# Altium schematic symbol library socket_card.SchLib: 29 symbols
Pins are listed as number, name and electrical type; pins without a type are passive.

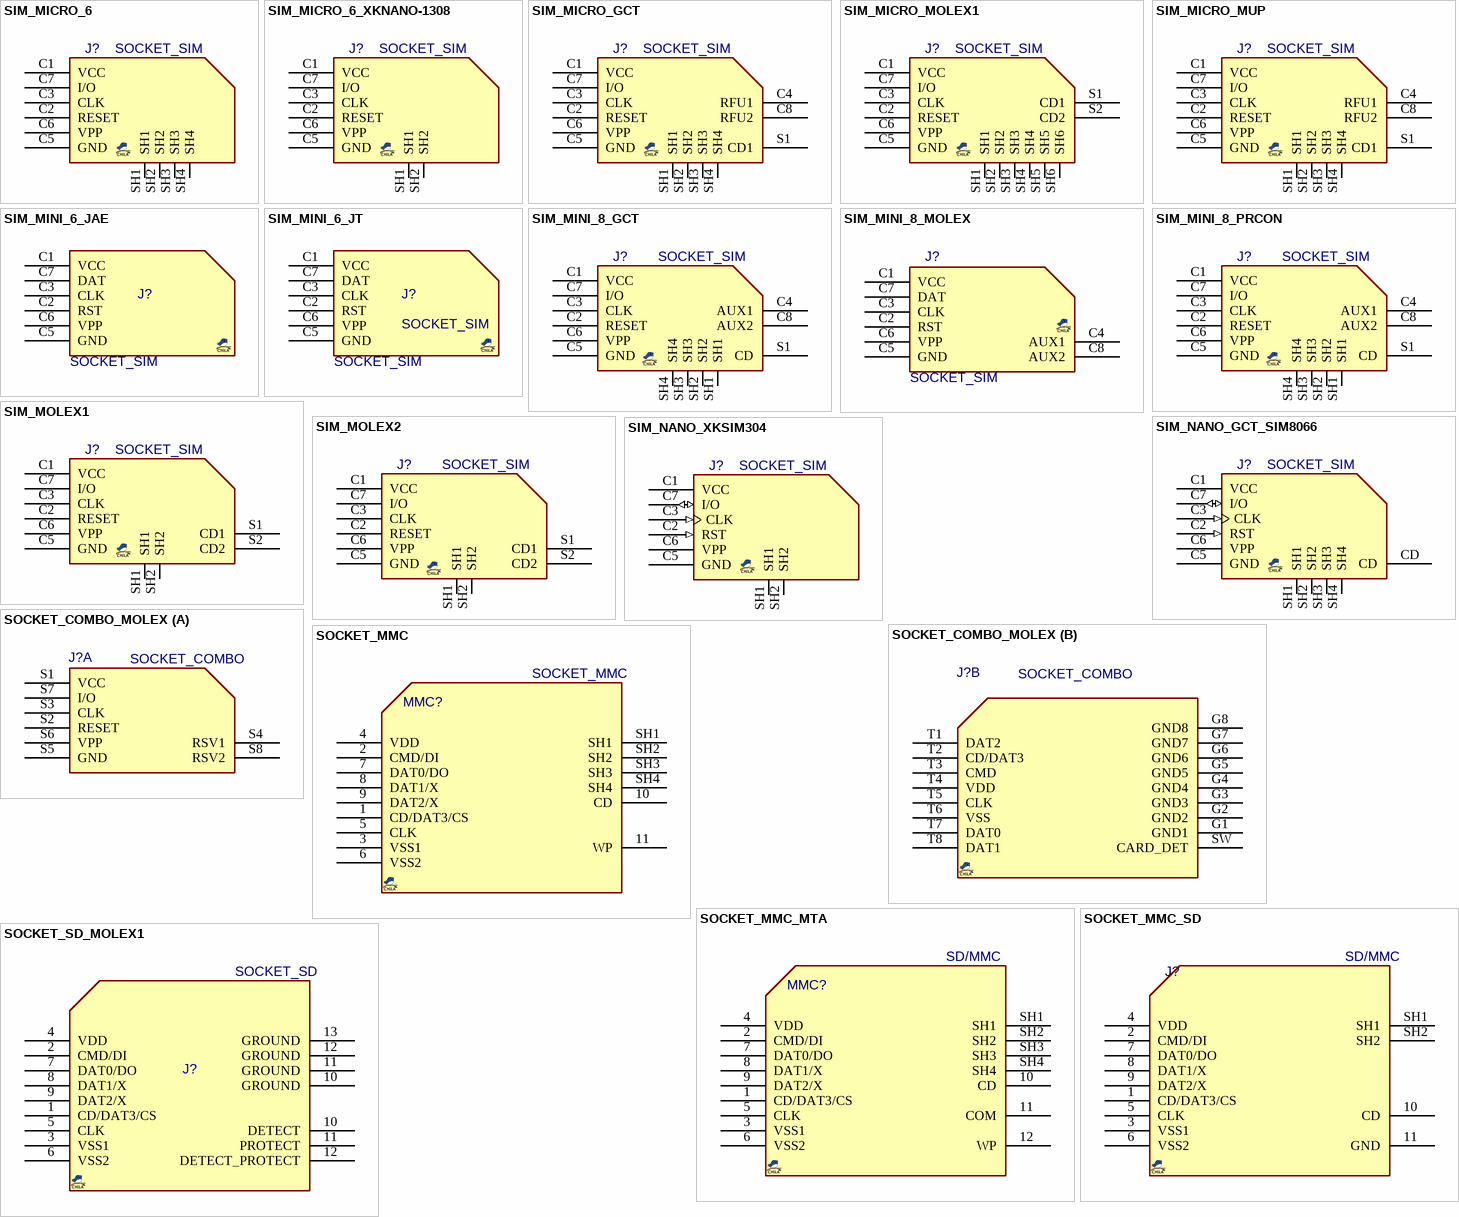
[diagram p0: symbols SIM_MICRO_6 to SOCKET_SD_MOLEX1]

## SIM_MICRO_6
designator J?, comment SOCKET_SIM
SOCKET, SIM MICRO; MANF: -; PRICE: 3t@Lion Iran; MANF_P#: -; DESC: -; VALUE: SOCKET_SIM
footprint SIM_MICRO_6 (Micro SIM Card Connector, 6 Pin)
pins: C1 VCC, C2 RESET, C3 CLK, C5 GND, C6 VPP, C7 I/O, SH1, SH2, SH3, SH4

## SIM_MICRO_6_XKNANO-1308
designator J?, comment SOCKET_SIM
SOCKET, SIM MICRO; MANF: -; PRICE: 0.1$; MANF_P#: XKNANO-1308; DESC: -; VALUE: SOCKET_SIM
footprint SIM_MICRO_6_XKNANO1308 (Micro SIM Card Connector, 6 Pin XKNANO-1308)
pins: C1 VCC, C2 RESET, C3 CLK, C5 GND, C6 VPP, C7 I/O, SH1, SH2

## SIM_MICRO_GCT
designator J?, comment SOCKET_SIM
SOCKET, SIM MICRO, PUSH/PUSH; MANF: GCT; MANF_P#: SIM7100; DESC: MUP-C792; PRICE: 1.4$; VALUE: SOCKET_SIM
footprint SIM_MICRO_GCT (Micro SIM Card Connector, SIM7100, Push-Push Type, 8 Pin, SMT, 1.50mm Profile)
pins: C1 VCC, C2 RESET, C3 CLK, C4 RFU1, C5 GND, C6 VPP, C7 I/O, C8 RFU2, S1 CD1, SH1, SH2, SH3, SH4

## SIM_MICRO_MOLEX1
designator J?, comment SOCKET_SIM
SOCKET, SIM MICRO, PUSH/PULL; MANF: MOLEX; MANF_P#: 78727; PRICE: 1.4$; VALUE: SOCKET_SIM
footprint SIM_MICRO_MOLEX (MOLEX PUSH/PULL MICROSIM SOCKET 78727)
pins: C1 VCC, C2 RESET, C3 CLK, C5 GND, C6 VPP, C7 I/O, S1 CD1, S2 CD2, SH1, SH2, SH3, SH4, SH5, SH6

## SIM_MICRO_MUP
designator J?, comment SOCKET_SIM
SOCKET, SIM MICRO, PUSH/PUSH, SIM7100; MANF: MUP; MANF_P#: MUP-C792; PRICE: 1.4$; DESC: SIM7100; VALUE: SOCKET_SIM
footprint SIM_MICRO_GCT (Micro SIM Card Connector, SIM7100, Push-Push Type, 8 Pin, SMT, 1.50mm Profile)
pins: C1 VCC, C2 RESET, C3 CLK, C4 RFU1, C5 GND, C6 VPP, C7 I/O, C8 RFU2, S1 CD1, SH1, SH2, SH3, SH4

## SIM_MINI_6_JAE
designator J?, comment SOCKET_SIM
SOCKET, SIM MINI, Hinged Lid, exist on Iran; MANF_P#: SF7W006S1AE1000; MANF: JAE; PARAM: Hinged Lid; PRICE: 3$; VALUE: SOCKET_SIM
footprint SIM_MINI_6
pins: C1 VCC, C2 RST, C3 CLK, C5 GND, C6 VPP, C7 DAT

## SIM_MINI_6_JT
designator J?, comment SOCKET_SIM
SOCKET, SIM MINI, PUSH-PULL, exist on Iran; MANF: JTCONN; MANF_P#: -; PRICE: 750toman@roboeq; VALUE: SOCKET_SIM
footprint SIM_MINI_6JT (SIM MINI, JTCONN)
pins: C1 VCC, C2 RST, C3 CLK, C5 GND, C6 VPP, C7 DAT

## SIM_MINI_8_GCT
designator J?, comment SOCKET_SIM
SOCKET, SIM MINI, PUSH-PUSH, exist on Iran; MANF: GCT; MANF_P#: SIM4065; PRICE: 2000t@JAVAN, 2500toman@eca; VALUE: SOCKET_SIM
footprint SIM_MINI_GCT (SIM MINI, GCT SIM4056 pitch: 1.27mm 26.3x19.3mm)
pins: C1 VCC, C2 RESET, C3 CLK, C4 AUX1, C5 GND, C6 VPP, C7 I/O, C8 AUX2, S1 CD, SH1, SH2, SH3, SH4

## SIM_MINI_8_MOLEX
designator J?, comment SOCKET_SIM
SOCKET, SIM MINI, with Ejector, exist on Iran; MANF: MOLEX; MANF_P#: 91228-3001; VALUE: SOCKET_SIM
footprint SIM_MINI_8_MOLEX (SIM 8P, MOLEX 91228-3001, 2.54mm Pitch ChipSIM Connector with Ejector, 6 Circuits, without Pegs, Yellow Button)
pins: C1 VCC, C2 RST, C3 CLK, C4 AUX1, C5 GND, C6 VPP, C7 DAT, C8 AUX2

## SIM_MINI_8_PRCON
designator J?, comment SOCKET_SIM
SOCKET, SIM MINI, PUSH-PUSH, exist on Iran; MANF: PROCONN, GCT; MANF_P#: SPPN08-A0-1080, SIM4065; PRICE: 2000t@JAVAN, 2500toman@eca; VALUE: SOCKET_SIM
footprint SIM_MINI_GCT (SIM MINI, GCT SIM4056 pitch: 1.27mm 26.3x19.3mm)
pins: C1 VCC, C2 RESET, C3 CLK, C4 AUX1, C5 GND, C6 VPP, C7 I/O, C8 AUX2, S1 CD, SH1, SH2, SH3, SH4

## SIM_MOLEX1
designator J?, comment SOCKET_SIM
SOCKET, SIM MINI, w/o Locator; MANF: Molex, ATTEND; MANF_P#: 47553-0001, 115A-ADA0-R02; PRICE: 1=2.94, 10=2.822, 25=2.5868, 50=2.4694, 100=2.3518, 250=2.05784 (USD); VALUE: SOCKET_SIM
footprint SIM_MINI_MOLEX1 (SIM MINI, MOLEX PUSH PUSH pitch: 1.27mm 26.3x19.3mm)
pins: C1 VCC, C2 RESET, C3 CLK, C5 GND, C6 VPP, C7 I/O, S1 CD1, S2 CD2, SH1, SH2

## SIM_MOLEX2
designator J?, comment SOCKET_SIM
SOCKET, SIM MINI, with Locator; MANF: Molex; MANF_P#: 47553-1001; PRICE: 1=2.94, 10=2.822, 25=2.5868, 50=2.4694, 100=2.3518, 250=2.05784 (USD); VALUE: SOCKET_SIM
footprint SIM_MINI_MOLEX2 (SIM MINI, with Locator, MOLEX 47553-1001)
pins: C1 VCC, C2 RESET, C3 CLK, C5 GND, C6 VPP, C7 I/O, S1 CD1, S2 CD2, SH1, SH2

## SIM_NANO_GCT_SIM8066
designator J?, comment SOCKET_SIM
SOCKET, SIM NANO, PUSH/PUSH; MANF: GCT; MANF_P#: SIM8066-6-1-14-01-A; PRICE: 1.4$; VALUE: SOCKET_SIM
footprint SIM_NANO_SIM8066 (Nano SIM Card Connector, GCT_SIM8066-6-1-14-01-A)
pins: C1 VCC (power), C2 RST (in), C3 CLK (in), C5 GND (power), C6 VPP, C7 I/O (io), CD, SH1, SH2, SH3, SH4

## SIM_NANO_XKSIM304
designator J?, comment SOCKET_SIM
SOCKET, SIM NANO; MANF: XKB; MANF_P#: XKSIM-304; MANF_P#2: SIM8051-6-0-14-00-A; PRICE: 0.3$; ComponentLink1Description: LINK2; ComponentLink1URL: https://eshop.eca.ir/%D8%B3%D9%88%DA%A9%D8%AA-%D8%AD%D8%A7%D9%81%D8%B8%D9%87-%D9%88-%D8%B3%DB%8C%D9%85-%DA%A9%D8%A7%D8%B1%D8%AA/10211-%D8%B3%D9%88%DA%A9%D8%AA-%D8%B3%DB%8C%D9%85-%DA%A9%D8%A7%D8%B1%D8%AA-%D9%86%D8%A7%D9%86%D9%88-6pin-%D9%BE%D9%84%D8%A7%D8%B3%D8%AA%DB%8C%DA%A9%DB%8C-%D8%A8%D8%A7-%D9%87%D9%88%D9%84%D8%AF%D8%B1-%D9%81%D9%84%D8%B2%DB%8C.html; ComponentLink2Description: LINK1; ComponentLink2URL: https://iran-micro.com/%D8%B3%D9%86%D8%B3%D9%88%D8%B1-%D9%88-%D9%85%D8%A7%DA%98%D9%88%D9%84/%D9%85%D8%A7%DA%98%D9%88%D9%84-%D8%B1%D8%A7%D8%AF%DB%8C%D9%88%DB%8C%DB%8C-RF-%D9%88-%D9%82%D8%B7%D8%B9%D8%A7%D8%AA-%D8%B1%D8%A7%D8%AF%DB%8C%D9%88%DB%8C%DB%8C/%D8%B3%D9%88%DA%A9%D8%AA-%D8%B3%DB%8C%D9%85-%DA%A9%D8%A7%D8%B1%D8%AA-%D9%86%D8%A7%D9%86%D9%88-nano-%D9%85%D8%AF%D9%84-6-%D9%BE%D8%A7%DB%8C%D9%87; ComponentLink3Description: LINK3; ComponentLink3URL: https://micmodshop.ir/products/66663/simcard-nano-push-pull-4/; VALUE: SOCKET_SIM
footprint SIM_NANO_XKSIM304 (Nano SIM Card Connector, XKSIM-304)
pins: C1 VCC (power), C2 RST (in), C3 CLK (in), C5 GND (power), C6 VPP, C7 I/O (io), SH1, SH2

## SOCKET_COMBO_MOLEX
designator J?, comment SOCKET_COMBO
SOCKET, MICROSIM+SD, MOLEX 104168-1620; MANF: MOLEX; MANF_P#: 104168-1620; VALUE: SOCKET_COMBO
footprint SIMCOMBO_MOLEX (MOLEX MICROSIM+SD SOCKET 104168-1620)
part A pins: S1 VCC, S2 RESET, S3 CLK, S4 RSV1, S5 GND, S6 VPP, S7 I/O, S8 RSV2
part B pins: G1 GND1, G2 GND2, G3 GND3, G4 GND4, G5 GND5, G6 GND6, G7 GND7, G8 GND8, SW CARD_DET, T1 DAT2, T2 CD/DAT3, T3 CMD, T4 VDD, T5 CLK, T6 VSS, T7 DAT0, T8 DAT1
part B text: micro SD

## SOCKET_MMC
designator MMC?
MMC/SD Card; VALUE: SOCKET_MMC
footprint MMC
pins: 1 CD/DAT3/CS, 2 CMD/DI, 3 VSS1, 4 VDD, 5 CLK, 6 VSS2, 7 DAT0/DO, 8 DAT1/X, 9 DAT2/X, 10 CD, 11 WP, SH1, SH2, SH3, SH4

## SOCKET_MMC_MTA
designator MMC?, comment SD/MMC
MMC/SD Card; MANF_P#: SDC-W25PB-09; MANF: Morethanall; VALUE: SD/MMC
footprint MMC_MTA (SD/MMC Morethanall SDC-W25PB-09)
pins: 1 CD/DAT3/CS, 2 CMD/DI, 3 VSS1, 4 VDD, 5 CLK, 6 VSS2, 7 DAT0/DO, 8 DAT1/X, 9 DAT2/X, 10 CD, 11 COM, 12 WP, SH1, SH2, SH3, SH4

## SOCKET_MMC_SD
designator J?, comment SD/MMC
VALUE: SD/MMC
footprint MMC_SD
pins: 1 CD/DAT3/CS, 2 CMD/DI, 3 VSS1, 4 VDD, 5 CLK, 6 VSS2, 7 DAT0/DO, 8 DAT1/X, 9 DAT2/X, 10 CD, 11 GND, SH1, SH2

## SOCKET_SD_MOLEX1
designator J?, comment SOCKET_SD
MANF_P#: 67600-8001; MANF: Molex; VALUE: SOCKET_SD
footprint SD_MOLEX1 (2.50mm Pitch, SD Memory Card Connector, Standard-Mount, Ultra Low Profile, with  PCB Locator, without Mylar, molex 676008001)
pins: 1 CD/DAT3/CS, 2 CMD/DI, 3 VSS1, 4 VDD, 5 CLK, 6 VSS2, 7 DAT0/DO, 8 DAT1/X, 9 DAT2/X, 10 GROUND, 10 DETECT, 11 GROUND, 11 PROTECT, 12 GROUND, 12 DETECT_PROTECT, 13 GROUND

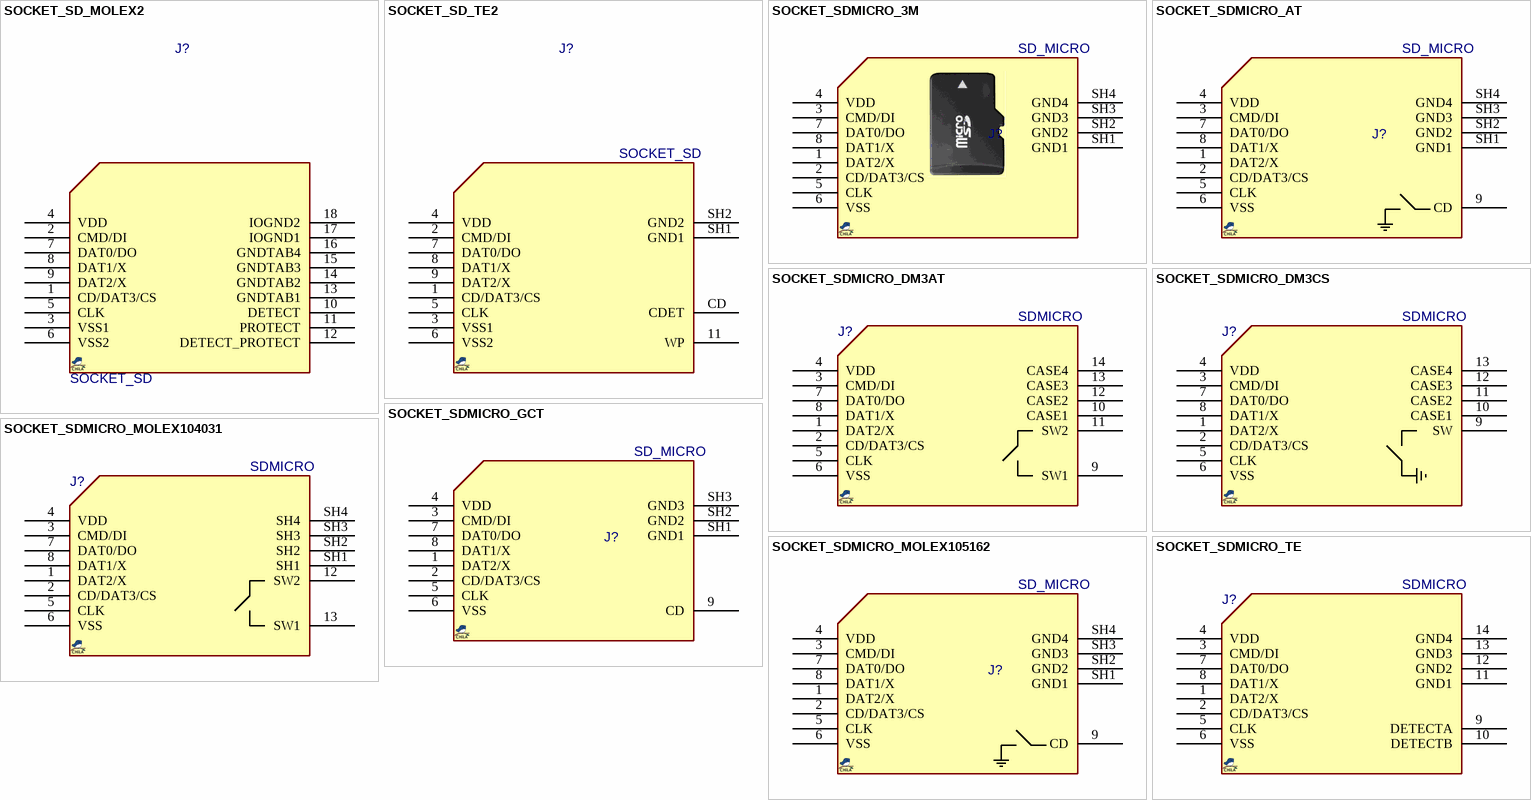
[diagram p1: symbols SOCKET_SD_MOLEX2 to SOCKET_SDMICRO_TE]

## SOCKET_SD_MOLEX2
designator J?, comment SOCKET_SD
SD MEMORY CARD CONNECTOR RT ANGLE THRU HOLE PUSH-PUSH; MANF: MOLEX; DESC: DESCRIPTION; MANF_P#: 67840-8001; ASSEMBLY: ASSEMBLY; PARAM: PARAM; PRICE: 4.3$; VALUE: SOCKET_SD
footprint SD_MOLEX2 (MOLEX_SD_67840)
pins: 1 CD/DAT3/CS, 2 CMD/DI, 3 VSS1, 4 VDD, 5 CLK, 6 VSS2, 7 DAT0/DO, 8 DAT1/X, 9 DAT2/X, 10 DETECT, 11 PROTECT, 12 DETECT_PROTECT, 13 GNDTAB1, 14 GNDTAB2, 15 GNDTAB3, 16 GNDTAB4, 17 IOGND1, 18 IOGND2

## SOCKET_SD_TE2
designator J?, comment SOCKET_SD
SD MEMORY CARD CONNECTOR RT ANGLE THRU HOLE PUSH-PUSH; MANF: TE; DESC: DESCRIPTION; MANF_P#: 1734472; ASSEMBLY: ASSEMBLY; PARAM: PARAM; PRICE: -; VALUE: SOCKET_SD
footprint SD_TE2 (TE 1734472)
pins: 1 CD/DAT3/CS, 2 CMD/DI, 3 VSS1, 4 VDD, 5 CLK, 6 VSS2, 7 DAT0/DO, 8 DAT1/X, 9 DAT2/X, 11 WP, CD CDET, SH1 GND1, SH2 GND2

## SOCKET_SDMICRO_3M
designator J?, comment SD_MICRO
SD MICRO, 3M 29-08-05WB-MG; MANF: 3M/MOLEX; MANF_P#: 29-08-05WB-MG; VALUE: SD_MICRO
footprint SDMICRO_3MOLEX (MicroSD Socket (Molex 500873-080X) (3M 2908-05WB-MG))
pins: 1 DAT2/X, 2 CD/DAT3/CS, 3 CMD/DI, 4 VDD, 5 CLK, 6 VSS, 7 DAT0/DO, 8 DAT1/X, SH1 GND1, SH2 GND2, SH3 GND3, SH4 GND4

## SOCKET_SDMICRO_AT
designator J?, comment SD_MICRO
SD MICRO exist in Iran, Attend 112J-TDAR-R01; DESC: TFW11-N1S1-2000-A; PARAM: push-push; MANF: Attend; MANF_P#: 112J-TDAR-R01; VALUE: SD_MICRO
footprint SDMICRO_AT (SDMICRO exist on Iran, Attend 112J-TDAR-R01)
pins: 1 DAT2/X, 2 CD/DAT3/CS, 3 CMD/DI, 4 VDD, 5 CLK, 6 VSS, 7 DAT0/DO, 8 DAT1/X, 9 CD, SH1 GND1, SH2 GND2, SH3 GND3, SH4 GND4

## SOCKET_SDMICRO_DM3AT
designator J?, comment SDMICRO
CONN MICRO SD R/A PUSH-PUSH SMD; MANF: Hirose; MANF_P#: DM3AT-SF-PEJM5; PRICE: 2.6$; VALUE: SDMICRO
footprint SDMICRO_DM3AT
pins: 1 DAT2/X, 2 CD/DAT3/CS, 3 CMD/DI, 4 VDD, 5 CLK, 6 VSS, 7 DAT0/DO, 8 DAT1/X, 9 SW1, 10 CASE1, 11 SW2, 12 CASE2, 13 CASE3, 14 CASE4

## SOCKET_SDMICRO_DM3CS
designator J?, comment SDMICRO
CONN MICRO SD R/A HING TYPE SMD; MANF: Hirose Electric Co Ltd; MANF_P#: DM3C-SF; PRICE: 1=2.36, 10=1.96, 25=1.8152, 50=1.6368, 100=1.452, 250=1.2738, 500=1.1616 (USD); VALUE: SDMICRO
footprint SDMICRO_DM3CS
pins: 1 DAT2/X, 2 CD/DAT3/CS, 3 CMD/DI, 4 VDD, 5 CLK, 6 VSS, 7 DAT0/DO, 8 DAT1/X, 9 SW, 10 CASE1, 11 CASE2, 12 CASE3, 13 CASE4

## SOCKET_SDMICRO_GCT
designator J?, comment SD_MICRO
SD MICRO, 3M 29-08-05WB-MG; MANF: GCT; MANF_P#: MEM2050; VALUE: SD_MICRO
footprint SDMICRO_GCT (micro SD, GCT MEM2050)
pins: 1 DAT2/X, 2 CD/DAT3/CS, 3 CMD/DI, 4 VDD, 5 CLK, 6 VSS, 7 DAT0/DO, 8 DAT1/X, 9 CD, SH1 GND1, SH2 GND2, SH3 GND3

## SOCKET_SDMICRO_MOLEX104031
designator J?, comment SDMICRO
CONN MICRO SD R/A PUSHin-PULLout SMD; MANF: Molex; MANF_P#: 104031-0811; PRICE: 2$; VALUE: SDMICRO
footprint SDMICRO_MOLEX104031 (MicroSD Socket Molex 104031-0811)
pins: 1 DAT2/X, 2 CD/DAT3/CS, 3 CMD/DI, 4 VDD, 5 CLK, 6 VSS, 7 DAT0/DO, 8 DAT1/X, 12 SW2, 13 SW1, SH1, SH2, SH3, SH4

## SOCKET_SDMICRO_MOLEX105162
designator J?, comment SD_MICRO
SD MICRO; MANF: MOLEX; MANF_P#: 1051620001; PARAM: Push In, Pull Out; PRICE: 1$; VALUE: SD_MICRO
footprint SDMICRO_MOLEX105162 (MicroSD Socket Molex 105162)
pins: 1 DAT2/X, 2 CD/DAT3/CS, 3 CMD/DI, 4 VDD, 5 CLK, 6 VSS, 7 DAT0/DO, 8 DAT1/X, 9 CD, SH1 GND1, SH2 GND2, SH3 GND3, SH4 GND4

## SOCKET_SDMICRO_TE
designator J?, comment SDMICRO
MANF_P#: 1871602-2; MANF: TE; VALUE: SDMICRO
footprint SDMICRO_TE (SD CARD SOCKET, Micro, Push/Push, Top Mount, With Locating Post, TE 1871602-2)
pins: 1 DAT2/X, 2 CD/DAT3/CS, 3 CMD/DI, 4 VDD, 5 CLK, 6 VSS, 7 DAT0/DO, 8 DAT1/X, 9 DETECTA, 10 DETECTB, 11 GND1, 12 GND2, 13 GND3, 14 GND4